# Altium schematic symbol library BDJ0GC0WEFJ-E2.SchLib: 1 symbol
Pins are listed as number, name and electrical type; pins without a type are passive.

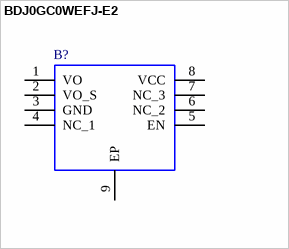
[diagram p0: symbol BDJ0GC0WEFJ-E2]

## BDJ0GC0WEFJ-E2
designator B?
1A Variable / Fixed Output LDO Regulator; Manufacturer_Name: ROHM Semiconductor; Geometry.Height: 1mm; Mouser Part Number: 755-BDJ0GC0WEFJ-E2; Mouser Price/Stock: https://www.mouser.com/Search/Refine.aspx?Keyword=755-BDJ0GC0WEFJ-E2; Manufacturer_Part_Number: BDJ0GC0WEFJ-E2; Datasheet Link: https://componentsearchengine.com/Datasheets/1/BDJ0GC0WEFJ-E2.pdf
footprint SOIC127P600X100-9N
pins: 1 VO, 2 VO_S, 3 GND, 4 NC_1, 5 EN, 6 NC_2, 7 NC_3, 8 VCC, 9 EP